# EAGLE library part AX_5341A_14SEG (library jason_eagle6)
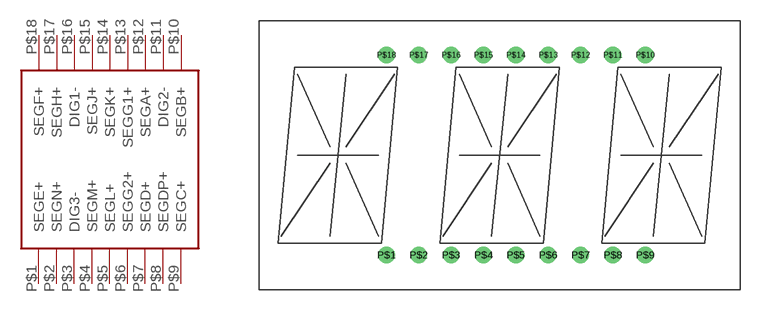
[diagram p75: symbol with the pads of AX_5341A_14SEG; footprint AX_5341A_14SEG]

Designator prefix -

## AX_5341A_14SEG  [AX_5341A_14SEG]
P$1  SEGE+
P$2  SEGN+
P$3  DIG3-
P$4  SEGM+
P$5  SEGL+
P$6  SEGG2+
P$7  SEGD+
P$8  SEGDP+
P$9  SEGC+
P$10  SEGB+
P$11  DIG2-
P$12  SEGA+
P$13  SEGG1+
P$14  SEGK+
P$15  SEGJ+
P$16  DIG1-
P$17  SEGH+
P$18  SEGF+

## Footprint AX_5341A_14SEG (pad centres in mm)
drill 0.8: P$1 -10.16,-7.85; P$2 -7.62,-7.85; P$3 -5.08,-7.85; P$4 -2.54,-7.85; P$5 0,-7.85; P$6 2.54,-7.85; P$7 5.08,-7.85; P$8 7.62,-7.85; P$9 10.16,-7.85; P$10 10.16,7.85; P$11 7.62,7.85; P$12 5.08,7.85; P$13 2.54,7.85; P$14 0,7.85; P$15 -2.54,7.85; P$16 -5.08,7.85; P$17 -7.62,7.85; P$18 -10.16,7.85